# EAGLE library part SN754410 (library IC_Power-Management)
Quadruple Half-H Driver Datasheet <https://www.ti.com/lit/ds/symlink/sn754410.pdf?ts=1613019217967&ref_url=https%253A%252F%252Fwww.ti.com%252Fproduct%252FSN754410%253Fqgpn%253Dsn754410>
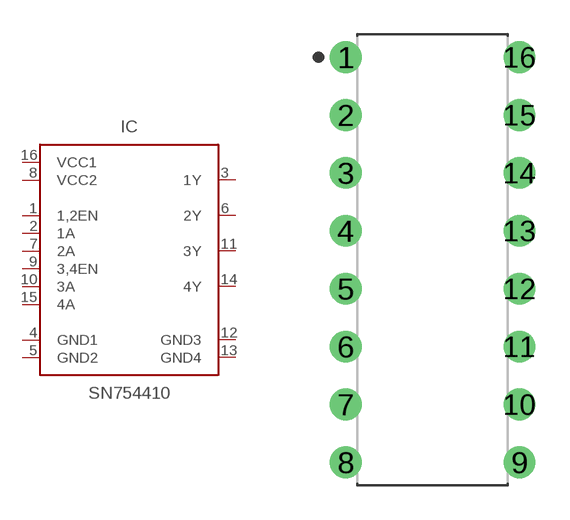
[diagram p21: symbol with the pads of DIP762W53P254L1980H508Q16B; footprint DIP762W53P254L1980H508Q16B]

Designator prefix IC

## SN754410 (CATEGORY: IC_Power-Management; DESCRIPTION: Quadruple Half-H Driver; MANUFACTURER: TEXAS INSTRUMENTS; MPN: SN754410; OPERATING_TEMP: -40°C to 150°C (TJ); PART_STATUS: Active; ROHS_COMPLIANT: ROHS3 Compliant; SERIES: SN754; SUB_CATEGORY: Motor Driver)  [DIP762W53P254L1980H508Q16B]
1  1,2EN  in
2  1A  in
3  1Y  out
4  GND1  pwr
5  GND2  pwr
6  2Y  out
7  2A  in
8  VCC2  pwr
9  3,4EN  in
10  3A  in
11  3Y  out
12  GND3  pwr
13  GND4  pwr
14  4Y  out
15  4A  in
16  VCC1  pwr

## Footprint DIP762W53P254L1980H508Q16B (pad centres in mm)
16-DIP, 2.54 mm (0.10 in) pitch, 7.62 mm (0.30 in) span, 19.80 X 6.35 X 5.08 mm body 16-pin DIP package with 2.54 mm (0.10 in) pitch, 7.62 mm (0.30 in) span with body size 19.80 X 6.35 X 5.08 mm
drill 0.789 pad 1.389: 1 -3.81,8.89; 2 -3.81,6.35; 3 -3.81,3.81; 4 -3.81,1.27; 5 -3.81,-1.27; 6 -3.81,-3.81; 7 -3.81,-6.35; 8 -3.81,-8.89; 9 3.81,-8.89; 10 3.81,-6.35; 11 3.81,-3.81; 12 3.81,-1.27; 13 3.81,1.27; 14 3.81,3.81; 15 3.81,6.35; 16 3.81,8.89